# EAGLE library part MICRO_MATE-N-LOK_10_VERTICAL (library con-tyco-micro-mate-n-lok-old)
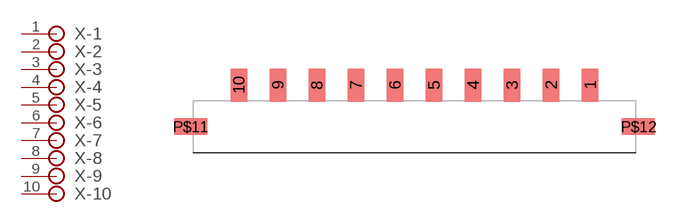
[diagram p3: symbol with the pads of MICRO_MATE-N-LOK_10_SURFACE_VERTICAL; footprint MICRO_MATE-N-LOK_10_SURFACE_VERTICAL]

Designator prefix X; gates -10=PIN -9=PIN -8=PIN -7=PIN -6=PIN -5=PIN -4=PIN -3=PIN -2=PIN -1=PIN

## MICRO_MATE-N-LOK_10_VERTICAL  [MICRO_MATE-N-LOK_10_SURFACE_VERTICAL]
1  -1:P$1
2  -2:P$1
3  -3:P$1
4  -4:P$1
5  -5:P$1
6  -6:P$1
7  -7:P$1
8  -8:P$1
9  -9:P$1
10  -10:P$1

## Footprint MICRO_MATE-N-LOK_10_SURFACE_VERTICAL (pad centres in mm)
smd 1.27 x 2.54: 1 13.5,3.2; 2 10.5,3.2; 3 7.5,3.2; 4 4.5,3.2; 5 1.5,3.2; 6 -1.5,3.2; 7 -4.5,3.2; 8 -7.5,3.2; 9 -10.5,3.2; 10 -13.5,3.2
smd 2.54 x 1.27: P$11 -17.205,0; P$12 17.205,0